# Altium schematic symbol library RC522.SchLib: 1 symbol
Pins are listed as number, name and electrical type; pins without a type are passive.

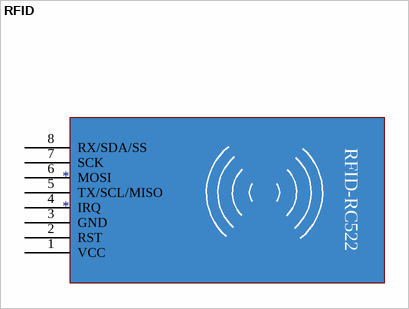
[diagram p0: symbol RFID]

## RFID
designator *
pins: 1 VCC, 2 RST, 3 GND, 4 IRQ, 5 TX/SCL/MISO, 6 MOSI, 7 SCK, 8 RX/SDA/SS
text: RFID-RC522